# Altium footprint library NP_PcbLib.PcbLib: 3 footprints
Each footprint in its own frame and in the unit in brackets; x right, y up, seen from the top. Pads: shape width x height; smd on the part's side, far side on the other; paste and mask are expansions set on the pad; w line width, h text height; cw(c..) or ccw(c..) is an arc to the next point about the centre after c.
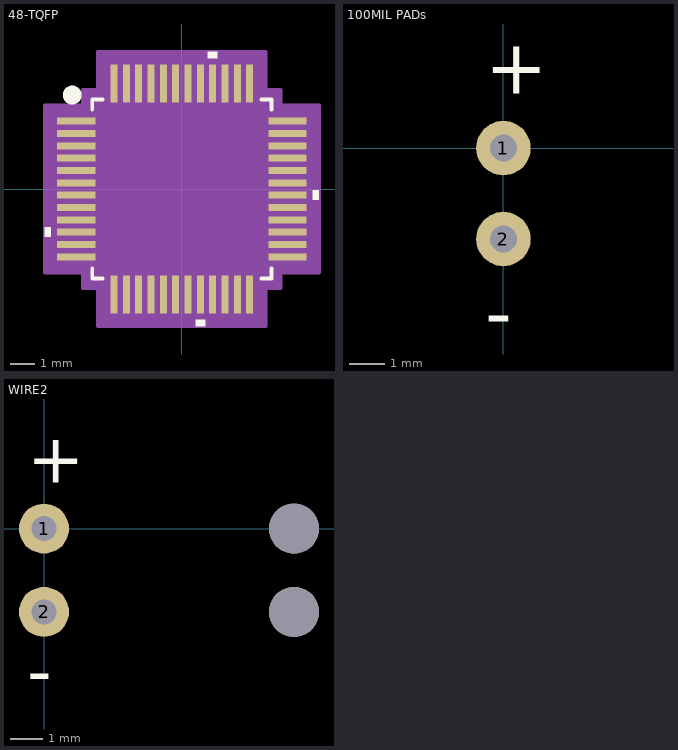
[diagram p0: the footprints below, top view; thin cyan lines are the x and y axes]

## 48-TQFP [mil]
pads (48):
  rect 61x11 smd paste+0 mask+0: 1(-168.5,108.27) 2(-168.5,88.58) 3(-168.5,68.9) 4(-168.5,49.21) 5(-168.5,29.53) 6(-168.5,9.84) 7(-168.5,-9.84) 8(-168.5,-29.53) 9(-168.5,-49.21) 10(-168.5,-68.9) 11(-168.5,-88.58) 12(-168.5,-108.27) 25(168.5,-108.27) 26(168.5,-88.58) 27(168.5,-68.9) 28(168.5,-49.21) 29(168.5,-29.53) 30(168.5,-9.84) 31(168.5,9.84) 32(168.5,29.53) 33(168.5,49.21) 34(168.5,68.9) 35(168.5,88.58) 36(168.5,108.27)
  rect 11x61 smd paste+0 mask+0: 13(-108.27,-168.5) 14(-88.58,-168.5) 15(-68.9,-168.5) 16(-49.21,-168.5) 17(-29.53,-168.5) 18(-9.84,-168.5) 19(9.84,-168.5) 20(29.53,-168.5) 21(49.21,-168.5) 22(68.9,-168.5) 23(88.58,-168.5) 24(108.27,-168.5) 37(108.27,168.5) 38(88.58,168.5) 39(68.9,168.5) 40(49.21,168.5) 41(29.53,168.5) 42(9.84,168.5) 43(-9.84,168.5) 44(-29.53,168.5) 45(-49.21,168.5) 46(-68.9,168.5) 47(-88.58,168.5) 48(-108.27,168.5)
Top Overlay:
  circle w20: c-175,150 r5
  region: -209,-61.4 -219,-61.4 -219,-76.4 -209,-76.4
  region: 37.03,-209 22.03,-209 22.03,-219 37.03,-219
  region: 209,-2.34 219,-2.34 219,-17.34 209,-17.34
  region: 56.71,209 41.71,209 41.71,219 56.71,219
  lines w6: -143,-126.87 -143,-143 -126.87,-143 ; -143,126.87 -143,143 -126.87,143 ; 126.87,-143 143,-143 143,-126.87 ; 126.87,143 143,143 143,126.87
Mechanical 13:
  drawing of 197 lines, arcs and shapes, not listed
  text "*" at -135.5,93.11 h50
  text ".Designator" at -100,41.66 h35
Mechanical 15:
  region: -133.77,-158 -158,-158 -158,-133.77 -219,-133.77 -219,133.77 -158,133.77 -158,158 -133.77,158 -133.77,219 133.77,219 133.77,158 158,158 158,133.77 219,133.77 219,-133.77 158,-133.77 158,-158 133.77,-158 133.77,-219 -133.77,-219
  lines w6: -219,-133.77 -158,-133.77 -158,-158 -133.77,-158 -133.77,-219 133.77,-219 133.77,-158 158,-158 158,-133.77 219,-133.77 219,133.77 158,133.77 158,158 133.77,158 133.77,219 -133.77,219 -133.77,158 -158,158 -158,133.77 -219,133.77 -219,-133.77
3D body "TQFP48_PT_MCH.step": height 47.09, standoff 0, extent -177.01,-177.01 177.01,177.01

## 100MIL PADs [mil]
pads (2):
  round 60 hole 30: 1(0,0) 2(0,-100)
Top Overlay:
  text "-" at -20,-209.99 h60
  text "+" at -20,60 h60

## WIRE2 [mil] "2 pin strain Relief"
pads (4):
  round 60 hole 30: 1(0,0) 2(0,-100)
  round 60 hole 60 unplated: ""(300,-100) ""(300,0)
Top Overlay:
  text "+" at -20,55 h60
  text "-" at -20,-199.99 h60